# EAGLE library part AD8038ARZ (library Oscilloscope_Components v39)
Voltage Feedback Amplifiers Check availability <https://pricing.snapeda.com/parts/AD8038ARZ/Analog%20Devices/view-part?ref=eda>
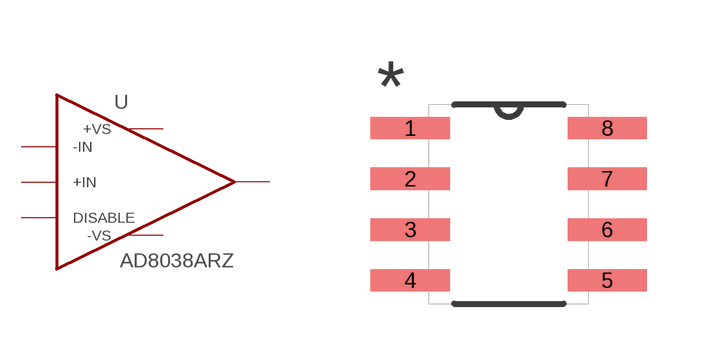
[diagram p3: symbol with the pads of SOIC127P600X175-8N; footprint SOIC127P600X175-8N]

Designator prefix U

## AD8038ARZ (AVAILABILITY: In Stock; CHECK_PRICES: https://www.snapeda.com/parts/AD8038ARZ/Analog+Devices/view-part/?ref=eda; DESCRIPTION: Low Power, 350 MHz Voltage Feedback Amplifiers; MF: Analog Devices; MP: AD8038ARZ; PACKAGE: SOIC-8 Analog Devices; PRICE: None; PURCHASE-URL: https://www.snapeda.com/api/url_track_click_mouser/?unipart_id=429233&manufacturer=Analog Devices&part_name=AD8038ARZ&search_term=ad8038; SNAPEDA_LINK: https://www.snapeda.com/parts/AD8038ARZ/Analog+Devices/view-part/?ref=snap)  [SOIC127P600X175-8N]
2  -IN  in
3  +IN  in
4  -VS  pwr
6  VOUT  out
7  +VS  pwr
8  DISABLE  pas

## Footprint SOIC127P600X175-8N (pad centres in mm)
smd 1.981 x 0.559: 1 -2.464,1.905; 2 -2.464,0.635; 3 -2.464,-0.635; 4 -2.464,-1.905; 5 2.464,-1.905; 6 2.464,-0.635; 7 2.464,0.635; 8 2.464,1.905